# EAGLE library part CONN_07 (library Ernest_Connectors)
Multi connection point. Often used as Generic Header-pin footprint for 0.1 inch spaced/style header connections
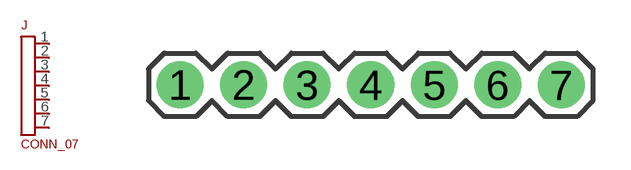
[diagram p5: symbol with the pads of 1X07; footprint 1X07]

Designator prefix J

## CONN_07  [1X07]
1  P$1
2  P$2
3  P$3
4  P$4
5  P$5
6  P$6
7  P$7

## Footprint 1X07 (pad centres in mm)
Plated Through Hole -7 Pin Specifications: Pin count:7 Pin pitch:0.1" Example device(s): CONN_07
drill 1.016 pad 1.88: 1 0,0; 2 2.54,0; 3 5.08,0; 4 7.62,0; 5 10.16,0; 6 12.7,0; 7 15.24,0